# Altium schematic symbol library SHUNT-SMD.SchLib: 1 symbol
Pins are listed as number, name and electrical type; pins without a type are passive.

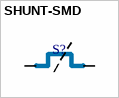
[diagram p0: symbol SHUNT-SMD]

## SHUNT-SMD
designator S?  (value not drawn)  (net tie, no BOM)
pins: 1, 2